# EAGLE library part TSYS01 (library capstone)
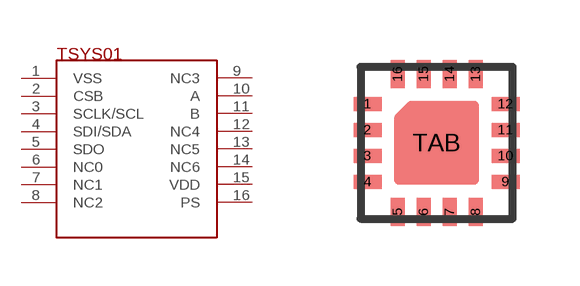
[diagram p3: symbol with the pads of QFN16; footprint QFN16]

Designator prefix -

## TSYS01  [QFN16]
1  VSS  pwr
2  CSB
3  SCLK/SCL
4  SDI/SDA
5  SDO
6  NC0  nc
7  NC1  nc
8  NC2  nc
9  NC3  nc
10  A
11  B
12  NC4  nc
13  NC5  nc
14  NC6  nc
15  VDD  pwr
16  PS

## Footprint QFN16 (pad centres in mm)
QFN-16 4 x 4 mm Source: Data sheet <http://www.ftdichip.com/Support/Documents/DataSheets/ICs/DS_FT230X.pdf>
smd 0.7 x 0.35: 1 -1.725,0.975; 2 -1.725,0.325; 3 -1.725,-0.325; 4 -1.725,-0.975; 9 1.725,-0.975; 10 1.725,-0.325; 11 1.725,0.325; 12 1.725,0.975
smd 0.35 x 0.7: 5 -0.975,-1.725; 6 -0.325,-1.725; 7 0.325,-1.725; 8 0.975,-1.725; 13 0.975,1.725; 14 0.325,1.725; 15 -0.325,1.725; 16 -0.975,1.725
smd 1 x 1: TAB 0,0